# Altium schematic symbol library nRF52_Key_Finder_SCHLIB.SchLib: 23 symbols
Pins are listed as number, name and electrical type; pins without a type are passive.

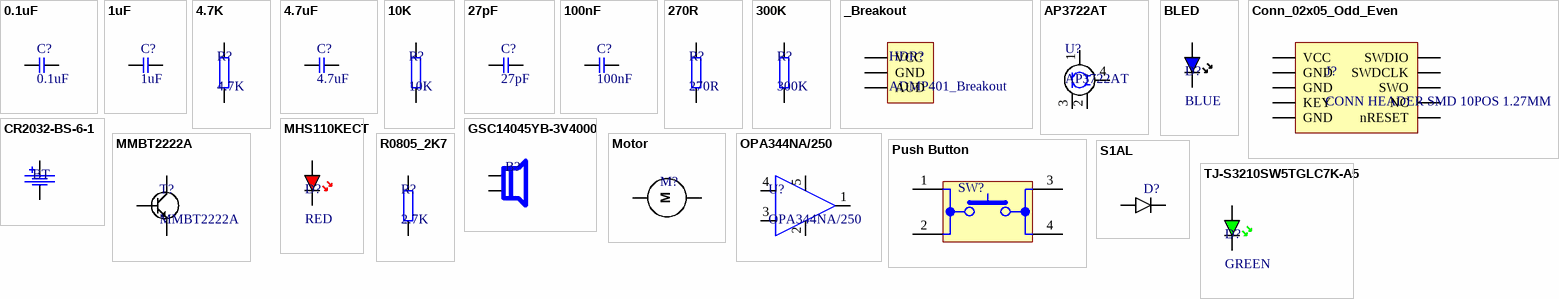
[diagram p0: symbols 0.1uF to TJ-S3210SW5TGLC7K-A5]

## 0.1uF
designator C?
footprint C0805
pins: 1, 2

## 1uF
designator C?
footprint C0805
pins: 1, 2

## 4.7K
designator R?
footprint R0805
pins: 1, 2 100R

## 4.7uF
designator C?
footprint C0805
pins: 1, 2

## 10K
designator R?
footprint R0805
pins: 1, 2 100R

## 27pF
designator C?
footprint C0805
pins: 1, 2

## 100nF
designator C?
footprint C0805
pins: 1, 2

## 270R
designator R?
footprint R0805
pins: 1, 2 100R

## 300K
designator R?
footprint R0805
pins: 1, 2 100R

## _Breakout
designator HDR?, comment ADMP401_Breakout
footprint ADMP401_Breakout
pins: 1 VCC, 2 GND, 3 AUD

## AP3722AT
designator U?
footprint AP3722AT
pins: 1 VDD, 2 GND, 3 GND, 4 OUT

## BLED
designator D?, comment BLUE
pins: 1, 2

## Conn_02x05_Odd_Even
designator J?, comment CONN HEADER SMD 10POS 1.27MM
Mini SWD 0.05" Pitch Connector - 10 Pin SMT Box Header; Manufacturer: Adafruit Industries; Manufacturer Part Number: 4048; Supplier 1: Digi-Key; RoHS: No; Category: Connectors; Stock 1: 76; Pricing 1: 1=1.95000 (USD); ComponentLink1URL: https://media.digikey.com/pdf/Data%20Sheets/Adafruit%20PDFs/4048_Web.pdf?src-supplier=Digi-Key; ComponentLink1Description: https://media.digikey.com/pdf/Data%20Sheets/Adafruit%20PDFs/4048_Web.pdf?src-supplier=Digi-Key; Supplier Part Number 1: 1528-2827-ND
footprint Conn_02x05_Odd_Even
pins: 1 VCC, 2 SWDIO, 3 GND, 4 SWDCLK, 5 GND, 6 SWO, 7 KEY, 8 NC, 9 GND, 10 nRESET

## CR2032-BS-6-1
designator BT  (value not drawn)
footprint CR2032-BS-6-1
pins: 1, 2

## GSC14045YB-3V4000
designator B?, comment Piezoelectric buzzer  (value not drawn)
NO 4000±500Hz 75dB @ 3V, 10cm Piezo 3V 14mm x 14mm SMD,14x14x4mm Buzzers ROHS
footprint GSC14045YB-3V4000
pins: 1, 2

## MHS110KECT
designator D?, comment RED
Red 617.5~629.5nm 1.8V - 1204 Light Emitting Diodes (LED) ROHS
footprint 1206_RED
pins: A, K

## MMBT2222A
designator T?
TRANS NPN 40V 0.6A SOT-23; Manufacturer: STMicroelectronics; Max Power Dissipation: 350mW; Frequency: 270MHz; hFE Min: 100; Max Collector Current: 600mA; Collector Base Voltage (VCBO): 75V; Emitter Base Voltage (VEBO): 6V; Number of Elements: 1; Element Configuration: Single; Current Rating: 500mA; Collector-emitter Voltage-Max: 1V; Supplier 1: Digi-Key; Manufacturer Part Number: MMBT2222A; RoHS: Yes; Category: BJTs; Mount: Surface Mount; Case/Package: SOT-23; Number of Pins: 3; Min Operating Temperature: -65°C; Max Operating Temperature: 150°C; Package Quantity: 1; Collector Emitter Voltage (VCEO): 40V; Packaging: Tape and Reel; Transition Frequency: 270MHz; Polarity: NPN; Collector Emitter Breakdown Voltage: 40V; Power Dissipation: 350mW; Gain Bandwidth Product: 270MHz; Max Breakdown Voltage: 40V; Voltage Rating (DC): 40V; Series: -; Radiation Hardening: No; REACH SVHC: No SVHC; Lead Free: Lead Free; RoHS Compliant: Yes; ComponentLink1URL: https://datasheet.ciiva.com/16286/cd00003176-315443-16286091.pdf?src-supplier=Mouser; ComponentLink1Description: https://datasheet.ciiva.com/16286/cd00003176-315443-16286091.pdf?src-supplier=Mouser; ComponentLink2URL: https://datasheet.ciiva.com/985/cd00003176-985312.pdf?src-supplier=Digi-Key; ComponentLink2Description: https://datasheet.ciiva.com/985/cd00003176-985312.pdf?src-supplier=Digi-Key; Supplier Part Number 1: 497-2479-1-ND
footprint MMBT2222A
pins: 1, 2, 3

## Motor
designator M?  (value not drawn)
footprint F_HDR_1X2
pins: 1, 2
text: M

## OPA344NA/250
designator U?
IC OPAMP GP 1MHZ RRO SOT23-5; Manufacturer: Texas Instruments; Nominal Supply Current: 250uA; Min Supply Voltage: 2.7V; Max Supply Voltage: 5.5V; Voltage Gain: 122dB; Common Mode Rejection Ratio: 76dB; Number of Channels: 1; Slew Rate: 0.8V/µs; Max I/O Voltage: 1mV; Input Bias Current: 10pA; Output Current per Channel: 15mA; Power Supply Rejection Ratio (PSRR): 90.46dB; Quiescent Current: 250mA; Amplifier Type: GENERAL PURPOSE; Supplier 1: Digi-Key; Manufacturer Part Number: OPA344NA/250; RoHS: Yes; Category: Amplifiers - Op Amps, Buffer, Instrumentation; Stock 1: 4320; Pricing 1: 1=1.80000, 10=1.61800, 25=1.52640, 100=1.30050 (USD); Case/Package: SOT-23; Number of Pins: 5; Min Operating Temperature: -40°C; Max Operating Temperature: 85°C; Packaging: Tape and Reel; Package Quantity: 250; Bandwidth: 1MHz; Unity Gain Bandwidth Product: 1MHz; Input Offset Voltage (Vos): 1mV; Gain Bandwidth Product: 1MHz; Number of Circuits: 1; Number of Amplifiers: 1; Number of Elements: 1; Supply Current: 250uA; Technology: CMOS; Length: 2.9mm; Width: 1.6mm; Height: 1.15mm; Radiation Hardening: No; REACH SVHC: No SVHC; Lead Free: Lead Free; RoHS Compliant: Yes; ComponentLink1URL: https://datasheet.ciiva.com/7219/opa4344-7219632.pdf?src-supplier=Newark; ComponentLink1Description: https://datasheet.ciiva.com/7219/opa4344-7219632.pdf?src-supplier=Newark; ComponentLink2URL: https://datasheet.ciiva.com/7738/1446265-7738626.pdf?src-supplier=Element14; ComponentLink2Description: https://datasheet.ciiva.com/7738/1446265-7738626.pdf?src-supplier=Element14; ComponentLink3URL: https://datasheet.ciiva.com/1797/opa344-1797748.pdf?src-supplier=Digi-Key; ComponentLink3Description: https://datasheet.ciiva.com/1797/opa344-1797748.pdf?src-supplier=Digi-Key; ComponentLink4URL: https://datasheet.ciiva.com/1797/opa344-1797749.pdf?src-supplier=Digi-Key; ComponentLink4Description: https://datasheet.ciiva.com/1797/opa344-1797749.pdf?src-supplier=Digi-Key; ComponentLink5URL: https://datasheet.ciiva.com/26226/opa344-26226533.pdf?src-supplier=Avnet+Europe; ComponentLink5Description: https://datasheet.ciiva.com/26226/opa344-26226533.pdf?src-supplier=Avnet+Europe; ComponentLink6URL: https://datasheet.ciiva.com/1797/opa344-1797750.pdf?src-supplier=Digi-Key; ComponentLink6Description: https://datasheet.ciiva.com/1797/opa344-1797750.pdf?src-supplier=Digi-Key; ComponentLink7URL: https://datasheet.ciiva.com/2974/opa344-2974008.pdf?src-supplier=Avnet; ComponentLink7Description: https://datasheet.ciiva.com/2974/opa344-2974008.pdf?src-supplier=Avnet; ComponentLink8URL: https://datasheet.ciiva.com/2974/opa344-2974009.pdf?src-supplier=Avnet; ComponentLink8Description: https://datasheet.ciiva.com/2974/opa344-2974009.pdf?src-supplier=Avnet; ComponentLink9URL: https://datasheet.ciiva.com/46391/1882856-46391995.pdf?src-supplier=Element14; ComponentLink9Description: https://datasheet.ciiva.com/46391/1882856-46391995.pdf?src-supplier=Element14; ComponentLink10URL: https://datasheet.ciiva.com/46391/1882856-46391996.pdf?src-supplier=Element14; ComponentLink10Description: https://datasheet.ciiva.com/46391/1882856-46391996.pdf?src-supplier=Element14
footprint SOT-23-5
pins: 1 OUT, 2 VEE, 3 V+, 4 V-, 5 VCC

## Push Button
designator SW?, comment 1825910-6  (value not drawn)
Switch Push Button OFF (ON) SPST Round Button 0.05A 24VDC Momentary Contact PC Pins Thru-Hole; Manufacturer: TE Connectivity Alcoswitch; Actuator Material: PBT; Mechanical Life: 100000Cycles; Operating Force: 160gf; Illumination Type: Illuminated,Non-Illuminated; Switch Travel: 0.25mm; Switch Function: Off-Mom; Actuator Type: Standard; Max Voltage Rating (DC): 24V; Contact Current Rating: 50mA; Contact Resistance: 100mR; Actuator Length: 0.055inch; Supplier 1: Digi-Key; Stock 1: 56143; Pricing 1: 1=0.1, 10=0.093, 25=0.0892, 50=0.0862, 100=0.0814, 250=0.0766, 500=0.0734, 1000=0.05584, 5000=0.04627 (USD); Mount: Through Hole; Contact Material: Copper Alloy; Contact Plating: Silver; Min Operating Temperature: -35°C; Max Operating Temperature: 85°C; Throw Configuration: SPST; Packaging: Loose Piece; Termination: PC Pins; Package Quantity: 750; Orientation: Straight; Electrical Life: 100000Cycles; Type: Switch; Max Current Rating: 50mA; Length: 5.99mm; REACH SVHC: Unknown; ELV: Compliant; Lead Free: Lead Free; ComponentLink1URL: http://www.onlinecomponents.com/productFiles/mf-AMP/1825910-6rqpn1825910-6.pdf; ComponentLink1Description: http://www.onlinecomponents.com/productFiles/mf-AMP/1825910-6rqpn1825910-6.pdf; ComponentLink2URL: http://www.te.com/commerce/DocumentDelivery/DDEController?Action=srchrtrv&DocNm=1825910&DocType=Customer+Drawing&DocLang=English; ComponentLink2Description: http://www.te.com/commerce/DocumentDelivery/DDEController?Action=srchrtrv&DocNm=1825910&DocType=Customer+Drawing&DocLang=English; Supplier Part Number 1: 450-1650-ND; Manufacturer Part Number: 1825910-6
footprint Push_Button_SMD_4.5X4.5
pins: 1, 2, 3, 4

## R0805_2K7
designator R?, comment 2.7K
RES SMD 2.7K OHM 1% 1/8W 0805; Manufacturer: Yageo; Manufacturer Part Number: AC0805FR-072K7L; Resistance: 2.7kR; Power Rating: 125mW; Voltage Rating: 150V; Temperature Coefficient: 100ppm/°C; Supplier 1: Digi-Key; RoHS: Yes; Category: Chip SMD Resistors; Stock 1: 3849; Pricing 1: 1=0.10000, 10=0.05000, 100=0.02040, 1000=0.00917, 2500=0.00796 (USD); Case/Package: 0805; Case Code (Imperial): 0805; Case Code (Metric): 2012; Size Code: 0805; Min Operating Temperature: -55°C; Max Operating Temperature: 155°C; Tolerance: 1%; Packaging: Tape and Reel; Resistor Type: Thick Film; Number of Terminations: 2; Termination: SMD/SMT; Max Power Dissipation: 125mW; Features: Moisture Resistant,Automotive AEC-Q200; Series: AC; Length: 0.079inch; Width: 0.049inch; Height: 0.024inch; Lead Free: Lead Free; RoHS Compliant: Yes; ComponentLink1URL: https://datasheet.ciiva.com/12656/pyu-ac-51-rohs-l-2-12656732.pdf?src-supplier=Mouser; ComponentLink1Description: https://datasheet.ciiva.com/12656/pyu-ac-51-rohs-l-2-12656732.pdf?src-supplier=Mouser; Supplier Part Number 1: YAG3717CT-ND
footprint R0805
pins: 1, 2 100R

## S1AL
designator D?  (value not drawn)
Manufacturer: Taiwan Semiconductor; Manufacturer Part Number: RS1AL RVG; Supplier 1: Digi-Key; RoHS: Yes; Stock 1: 64; Pricing 1: 1=0.40000, 10=0.32100, 100=0.21860, 500=0.16394, 1000=0.12296 (USD); RoHS Compliant: Yes; Supplier Part Number 1: RS1ALRVGCT-ND
footprint S1AL
pins: A, K

## TJ-S3210SW5TGLC7K-A5
designator D?, comment GREEN
Green-yellow 565~575nm 1.8~2.4V - SMD Light Emitting Diodes (LED) ROHS
footprint 1206_GREEN
pins: A, K